# Altium schematic symbol library CORBI_R0.SchLib: 11 symbols
Pins are listed as number, name and electrical type; pins without a type are passive.

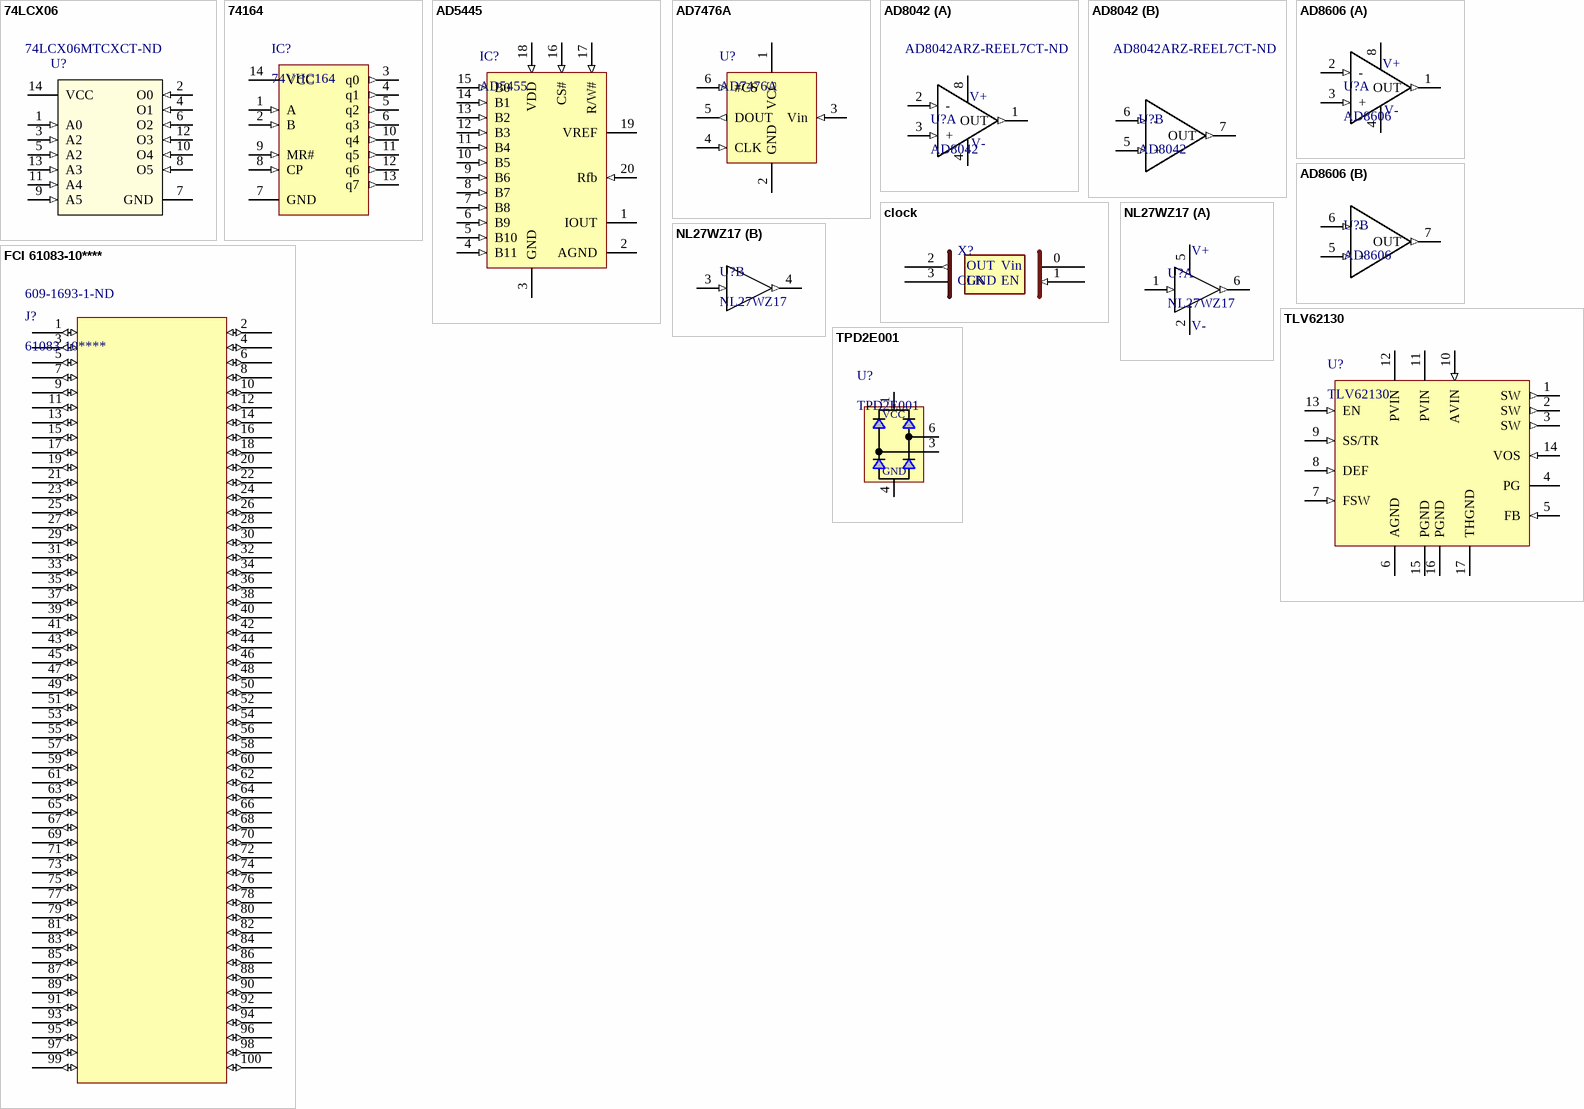
[diagram p0: symbols 74LCX06 to TPD2E001]

## 74LCX06
designator U?, comment Supplier Part Number 1: 74LCX06MTCXCT-ND  (hidden comment: Inverter)
Low Voltage Hex Inverter (LED Driver); Supplier 1: Digi-Key
footprint TSSOP-14 (TSSOP 14 Pin Footprint)
pins: 1 A0 (in), 2 O0 (in), 3 A2 (in), 4 O1 (in), 5 A2 (in), 6 O2 (in), 7 GND (power), 8 O5 (in), 9 A5 (in), 10 O4 (in), 11 A4 (in), 12 O3 (in), 13 A3 (in), 14 VCC (power)

## 74164
designator IC?, comment 74VHC164
8 Bit Serial In-Parallel out Shift Register; Supplier 1: Digi-Key; Supplier Part Number 1: 74VHC164MTCXCT-ND
footprint 74164 (8 Bit serial in-parallel out shift register)
footprint TSSOP-14 (TSSOP 14 Pin Footprint)
pins: 1 A (in), 2 B (in), 3 q0 (out), 4 q1 (out), 5 q2 (out), 6 q3 (out), 7 GND (power), 8 CP (in), 9 MR# (in), 10 q4 (out), 11 q5 (out), 12 q6 (out), 13 q7 (out), 14 VCC

## AD5445
designator IC?, comment AD5455
12 Bit-High Bandwidth Multiplying DAC with parallel input; Supplier 1: Digi-Key; Supplier Part Number 1: AD5445YRUZ-ND
footprint TSSOP-20 (12 Bit- Multiplying DAC with parallel interface)
pins: 1 IOUT (power), 2 AGND (power), 3 GND (power), 4 B11 (in), 5 B10 (in), 6 B9 (in), 7 B8 (in), 8 B7 (in), 9 B6 (in), 10 B5 (in), 11 B4 (in), 12 B3 (in), 13 B2 (in), 14 B1 (in), 15 B0 (in), 16 CS# (in), 17 R/W# (in), 18 VDD (in), 19 VREF (power), 20 Rfb (in)

## AD7476A
designator U?
12 Bit, 1 MSPS, Low-Power A/D Converter; Manufaturer: Analog Devices Inc.; Datasheet-online: http://www.analog.com/static/imported-files/data_sheets/AD7476A_7477A_7478A.pdf; Supplier 1: Digi-Key; Supplier Part Number 1: AD7476AAKSZ-500RL7CT-ND
footprint SC70-KS-6 (12bitm, 1 MSPS, Low Power A/D Converter)
pins: 1 VCC (power), 2 GND (power), 3 Vin (in), 4 CLK (in), 5 DOUT (out), 6 #CS (in)

## AD8042
designator U?  Supplier Part Number 1: AD8042ARZ-REEL7CT-ND
Rail-to-Rual Operational Amplifier; Supplier 1: Digi-Key
footprint SOIC_N-8
part A pins: 1 OUT (out), 2 - (in), 3 + (in), 4 V- (power), 8 VCC+ (power) "V+"
part B pins: 5 + (in), 6 - (in), 7 OUT (out)
part A text: V+

## AD8606
designator U?
Low Noise Precision Operational Amplifier; Supplier 1: Digi-Key; Supplier Part Number 1: AD8606ARMZREELCT-ND
footprint 8-MSOP
part A pins: 1 OUT (out), 2 - (in), 3 + (in), 4 V- (power), 8 VCC+ (power) "V+"
part B pins: 5 + (in), 6 - (in), 7 OUT (out)
part A text: V+

## clock
designator X?, comment CLK
Clock
pins: 0, 1 (in), 2 (out), 3
text: OUT; Vin; GND; EN

## FCI 61083-10****
designator J?, comment 61083-10****  Supplier Part Number 1: 609-1693-1-ND
FCI 2X50 header; Supplier 1: Digi-Key
footprint FCI 61083-10***** (2X50 Header by FCI)
pins: 1 (io), 2 (io), 3 (io), 4 (io), 5 (io), 6 (io), 7 (io), 8 (io), 9 (io), 10 (io), 11 (io), 12 (io), 13 (io), 14 (io), 15 (io), 16 (io), 17 (io), 18 (io), 19 (io), 20 (io), 21 (io), 22 (io), 23 (io), 24 (io), 25 (io), 26 (io), 27 (io), 28 (io), 29 (io), 30 (io), 31 (io), 32 (io), 33 (io), 34 (io), 35 (io), 36 (io), 37 (io), 38 (io), 39 (io), 40 (io), 41 (io), 42 (io), 43 (io), 44 (io), 45 (io), 46 (io), 47 (io), 48 (io), 49 (io), 50 (io), 51 (io), 52 (io), 53 (io), 54 (io), 55 (io), 56 (io), 57 (io), 58 (io), 59 (io), 60 (io), 61 (io), 62 (io), 63 (io), 64 (io), 65 (io), 66 (io), 67 (io), 68 (io), 69 (io), 70 (io), 71 (io), 72 (io), 73 (io), 74 (io), 75 (io), 76 (io), 77 (io), 78 (io), 79 (io), 80 (io), 81 (io), 82 (io), 83 (io), 84 (io), 85 (io), 86 (io), 87 (io), 88 (io), 89 (io), 90 (io), 91 (io), 92 (io), 93 (io), 94 (io), 95 (io), 96 (io), 97 (io), 98 (io), 99 (io), 100 (io)

## NL27WZ17
designator U?
Dual Non-Inverting Schmitt Trigger Buffer; Manufacturer: On Semiconductor; Data Sheet: http://pdf1.alldatasheet.com/datasheet-pdf/view/104595/ONSEMI/NL27WZ17DFT2.html; Supplier 1: Digi-Key; Supplier Part Number 1: NL27WZ17DFT2GOSCT-ND
footprint SOT_363 (Dual Non-Inverting Schmitt Trigger Buffer)
part A pins: 1 IN1 (in), 2 GND (power), 5 VCC (power), 6 OUT1 (out)
part B pins: 3 IN2 (in), 4 OUT2 (out)
part A text: V+; V-

## TLV62130
designator U?
4-17V 3A Buck Converter; Supplier 1: Digi-Key; Supplier Part Number 1: 296-36471-2-ND
footprint QFN 16 (Buck Converter)
pins: 1 SW (out), 2 SW (out), 3 SW (out), 4 PG (oc), 5 FB (in), 6 AGND (power), 7 FSW (in), 8 DEF (in), 9 SS/TR (in), 10 AVIN (in), 11 PVIN (power), 12 PVIN (power), 13 EN (in), 14 VOS (in), 15 PGND (power), 16 PGND (power), 17 THGND (power)

## TPD2E001
designator U?
ESD Protection Array; Supplier 1: Digi-Key; Supplier Part Number 1: 296-21884-1-ND
footprint DRY (R-PUSON-N6) (TI ESD Protection)
pins: 1 VCC (power), 3 IO1, 4 GND (power), 6 IO2